# EAGLE library part FREESCALE-MPL115A2 (library FaBo-Sensor)
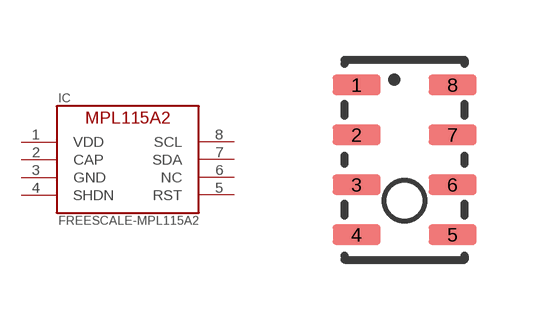
[diagram p11: symbol with the pads of MPL115A2; footprint MPL115A2]

Designator prefix IC

## FREESCALE-MPL115A2  [MPL115A2]
1  VDD
2  CAP
3  GND
4  SHDN
5  RST
6  NC
7  SDA
8  SCL

## Footprint MPL115A2 (pad centres in mm)
smd 1.2 x 0.5: 1 -1.2,1.875; 2 -1.2,0.625; 3 -1.2,-0.625; 4 -1.2,-1.875; 5 1.2,-1.875; 6 1.2,-0.625; 7 1.2,0.625; 8 1.2,1.875